# Altium footprint library 7447709471.PcbLib: 3 footprints
Each footprint in its own frame and in the unit in brackets; x right, y up, seen from the top. Pads: shape width x height; smd on the part's side, far side on the other; paste and mask are expansions set on the pad; w line width, h text height; cw(c..) or ccw(c..) is an arc to the next point about the centre after c.
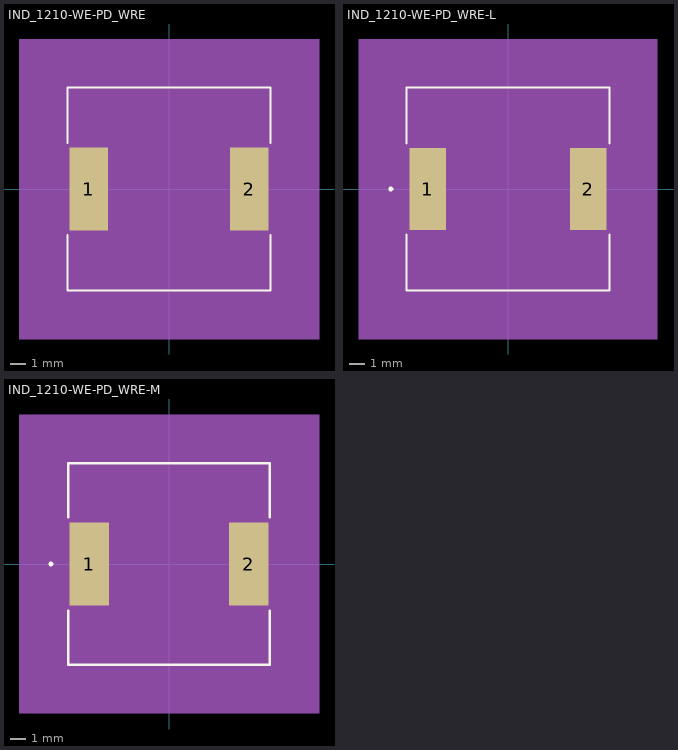
[diagram p0: the footprints below, top view; thin cyan lines are the x and y axes]

## IND_1210-WE-PD_WRE [mil]
pads (2):
  rect 95x205 smd paste+0 mask+0: 1(-198.5,0) 2(198.5,0)
Top Overlay:
  lines w6: -251,-114.61 -251,-251 251,-251 251,-114.61 ; -251,114.61 -251,251 251,251 251,114.61
Mechanical 5:
  region: 371,-371 -371,-371 -371,371 371,371
Mechanical 13:
  circle w0: c0,0 r0
  lines w1: -246,-246 246,-246 246,246 -246,246 -246,-246
Mechanical 15:
  region: -256,-112.5 -256,112.5 -256,256 256,256 256,112.5 256,-112.5 256,-256 -256,-256
  lines w6: -256,-112.5 -256,112.5 ; -256,-112.5 -256,-112.5 ; -256,-112.5 -256,-256 256,-256 256,-112.5 ; -256,112.5 -256,112.5 ; -256,112.5 -256,256 256,256 256,112.5 ; 256,-112.5 256,112.5 ; 256,-112.5 256,-112.5 ; 256,112.5 256,112.5
3D body "IND_1210-WE-PD_WRE.step": height 394.09, standoff 0, extent -245.98,-245.98 245.98,245.98

## IND_1210-WE-PD_WRE-L [mil]
pads (2):
  rect 91x203 smd paste+0 mask+0: 1(-198.5,0) 2(198.5,0)
Top Overlay:
  circle w6: c-289.5,0 r3
  lines w6: -251,-112.57 -251,-251 251,-251 251,-112.57 ; -251,112.57 -251,251 251,251 251,112.57
Mechanical 5:
  region: 369,-371 -369,-371 -369,371 369,371
Mechanical 13:
  circle w0: c0,0 r3
  lines w1: -246,-246 246,-246 246,246 -246,246 -246,-246
Mechanical 15:
  region: -250,-105.5 -250,105.5 -250,250 250,250 250,105.5 250,-105.5 250,-250 -250,-250
  lines w6: -250,-105.5 -250,105.5 ; -250,-105.5 -250,-105.5 ; -250,-105.5 -250,-250 250,-250 250,-105.5 ; -250,105.5 -250,105.5 ; -250,105.5 -250,250 250,250 250,105.5 ; 250,-105.5 250,105.5 ; 250,-105.5 250,-105.5 ; 250,105.5 250,105.5
3D body "IND_1210-WE-PD_WRE.step": height 394.09, standoff 0, extent -245.98,-245.98 245.98,245.98

## IND_1210-WE-PD_WRE-M [mil]
pads (2):
  rect 99x207 smd paste+0 mask+0: 1(-198.5,0) 2(198.5,0)
Top Overlay:
  circle w6: c-293.5,0 r3
  lines w6: -251,-116.25 -251,-251 251,-251 251,-116.25 ; -251,116.25 -251,251 251,251 251,116.25
Mechanical 5:
  region: 373,-371 -373,-371 -373,371 373,371
Mechanical 13:
  circle w0: c0,0 r3
  lines w1: -246,-246 246,-246 246,246 -246,246 -246,-246
Mechanical 15:
  region: -266,-123.5 -268,-123.5 -268,123.5 -266,123.5 -266,266 266,266 266,123.5 268,123.5 268,-123.5 266,-123.5 266,-266 -266,-266
  lines w6: -268,-123.5 -268,123.5 -266,123.5 -266,266 266,266 266,123.5 268,123.5 268,-123.5 266,-123.5 266,-266 -266,-266 -266,-123.5 -268,-123.5
3D body "IND_1210-WE-PD_WRE.step": height 394.09, standoff 0, extent -245.98,-245.98 245.98,245.98